# EAGLE library part STM8S103F3 (library IC_Embedded)
8-bit Microcontrollers - MCU Access line, 16 MHz STM8S 8-bit 8 Kbyte Datasheet <https://www.st.com/resource/en/datasheet/stm8s103f3.pdf>
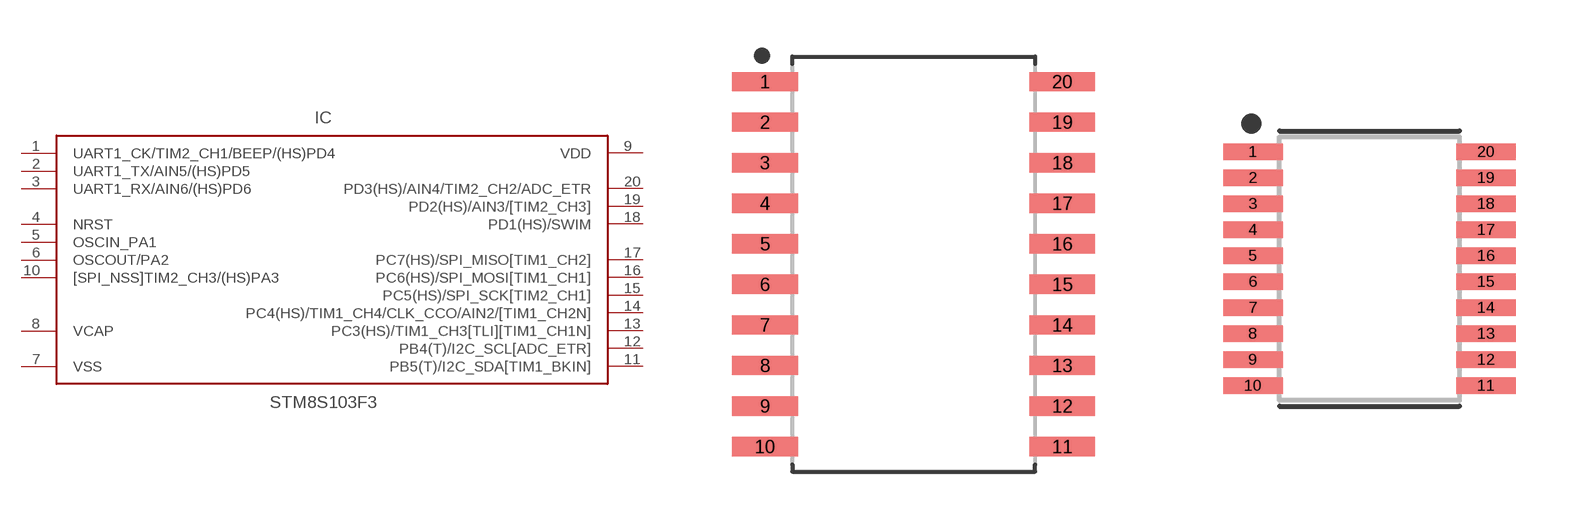
[diagram p28: symbol with the pads of SOIC127P1032X265-20N; footprints SOIC127P1032X265-20N, SOP65P640X120-20N]

Designator prefix IC

## STM8S103F3SO20 (CATEGORY: IC_Embedded; DESCRIPTION: 8-bit Microcontrollers - MCU Access line 8-bit MCU 4Kb; MANUFACTURER: STMicroelectronics; MPN: STM8S103F3M3; OPERATING_TEMPERATUER: -40 C to +125 C; ROHS_COMPLIANT: COMPLIANT; SERIES: STM8S103F3; SUB_CATEGORY: Microcontroller; VALUE: STM8)  [SOIC127P1032X265-20N]
1  UART1_CK/TIM2_CH1/BEEP/(HS)PD4
2  UART1_TX/AIN5/(HS)PD5
3  UART1_RX/AIN6/(HS)PD6
4  NRST
5  OSCIN_PA1
6  OSCOUT/PA2
7  VSS  pwr
8  VCAP  pas
9  VDD  pwr
10  [SPI_NSS]TIM2_CH3/(HS)PA3
11  PB5(T)/I2C_SDA[TIM1_BKIN]
12  PB4(T)/I2C_SCL[ADC_ETR]
13  PC3(HS)/TIM1_CH3[TLI][TIM1_CH1N]
14  PC4(HS)/TIM1_CH4/CLK_CCO/AIN2/[TIM1_CH2N]
15  PC5(HS)/SPI_SCK[TIM2_CH1]
16  PC6(HS)/SPI_MOSI[TIM1_CH1]
17  PC7(HS)/SPI_MISO[TIM1_CH2]
18  PD1(HS)/SWIM
19  PD2(HS)/AIN3/[TIM2_CH3]
20  PD3(HS)/AIN4/TIM2_CH2/ADC_ETR

## STM8S103F3TSSOP20 (CATEGORY: 8-bit Microcontrollers - MCU; DESCRIPTION: 8-bit Microcontrollers - MCU Access line, 16 MHz STM8S 8-bit 8 Kbyte; MANUFATURER: STMicroelectronics; MPN: STM8S103F3P3; OPERATING_TEMPERATUER: - 40 C to +125 C; ROHS_COMPLIANT: COMPLIANT; SERIES: STM8S103F3; SUB_CATEGORY: Microcontrollers - MCU; VALUE: STM8)  [SOP65P640X120-20N]
Pads as for SOIC127P1032X265-20N

## Footprint SOIC127P1032X265-20N (pad centres in mm)
20-SOIC, 1.27 mm pitch, 10.32 mm span, 12.80 X 7.50 X 2.65 mm body 20-pin SOIC package with 1.27 mm pitch, 10.32 mm span with body size 12.80 X 7.50 X 2.65 mm
smd 2.053 x 0.605: 1 -4.654,5.715; 2 -4.654,4.445; 3 -4.654,3.175; 4 -4.654,1.905; 5 -4.654,0.635; 6 -4.654,-0.635; 7 -4.654,-1.905; 8 -4.654,-3.175; 9 -4.654,-4.445; 10 -4.654,-5.715; 11 4.654,-5.715; 12 4.654,-4.445; 13 4.654,-3.175; 14 4.654,-1.905; 15 4.654,-0.635; 16 4.654,0.635; 17 4.654,1.905; 18 4.654,3.175; 19 4.654,4.445; 20 4.654,5.715

## Footprint SOP65P640X120-20N (pad centres in mm)
20-SOP, 0.65 mm pitch, 6.40 mm span, 6.50 X 4.40 X 1.20 mm body 20-pin SOP package with 0.65 mm pitch, 6.40 mm span with body size 6.50 X 4.40 X 1.20 mm
smd 1.488 x 0.41: 1 -2.914,2.925; 2 -2.914,2.275; 3 -2.914,1.625; 4 -2.914,0.975; 5 -2.914,0.325; 6 -2.914,-0.325; 7 -2.914,-0.975; 8 -2.914,-1.625; 9 -2.914,-2.275; 10 -2.914,-2.925; 11 2.914,-2.925; 12 2.914,-2.275; 13 2.914,-1.625; 14 2.914,-0.975; 15 2.914,-0.325; 16 2.914,0.325; 17 2.914,0.975; 18 2.914,1.625; 19 2.914,2.275; 20 2.914,2.925